# Altium footprint library TLV3401P.PcbLib: 1 footprints
Each footprint in its own frame and in the unit in brackets; x right, y up, seen from the top. Pads: shape width x height; smd on the part's side, far side on the other; paste and mask are expansions set on the pad; w line width, h text height; cw(c..) or ccw(c..) is an arc to the next point about the centre after c.
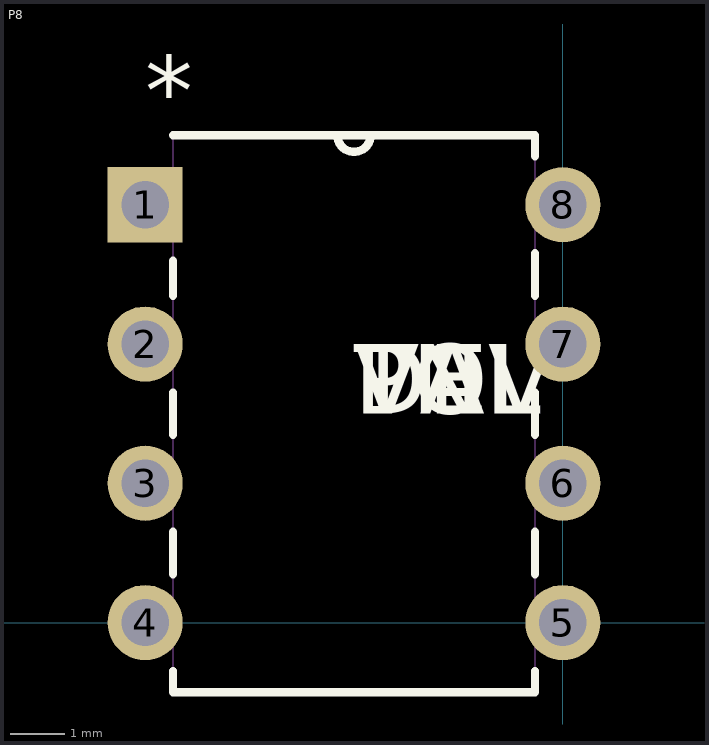
[diagram p0: the footprint, top view; thin cyan lines are the x and y axes]

## P8 [mil]
pads (8):
  rect 54x54 / inner round 60 / far side rect 54x54 hole 34: 1(-300,300)
  round 54 / inner round 60 / far side round 54 hole 34: 2(-300,200) 3(-300,100) 4(-300,0) 5(0,0) 6(0,100) 7(0,200) 8(0,300)
Top Overlay:
  lines w6: -280,-34.76 -280,-50 -20,-50 -20,-34.76 ; -280,34.76 -280,65.24 ; -280,134.76 -280,165.24 ; -280,234.76 -280,259.9 ; -280,350 -20,350 -20,334.76 ; -162,350 ccw(c-150,350) -138,350 ; -20,34.76 -20,65.24 ; -20,134.76 -20,165.24 ; -20,234.76 -20,265.24
  text "*" at -300,357 h50
  text "PN" at -150,150 h50
  text "DEV" at -150,150 h50
  text "VAL" at -150,150 h50
  text "TOL" at -150,150 h50
Mechanical 1:
  lines w0: -162,350 ccw(c-150,350) -138,350 ; -317,-17 -317,17 -280,17 -280,-17 -317,-17 ; -317,83 -317,117 -280,117 -280,83 -317,83 ; -317,183 -317,217 -280,217 -280,183 -317,183 ; -317,283 -317,317 -280,317 -280,283 -317,283 ; -280,-50 -20,-50 -20,350 -280,350 -280,-50 ; -20,-17 -20,17 17,17 17,-17 -20,-17 ; -20,83 -20,117 17,117 17,83 -20,83 ; -20,183 -20,217 17,217 17,183 -20,183 ; -20,283 -20,317 17,317 17,283 -20,283
  text "*" at -300,357 h50
  text "RefDes2" at -150,150 h50